# Altium schematic symbol library WISP_AD10.SchLib: 59 symbols
Pins are listed as number, name and electrical type; pins without a type are passive.

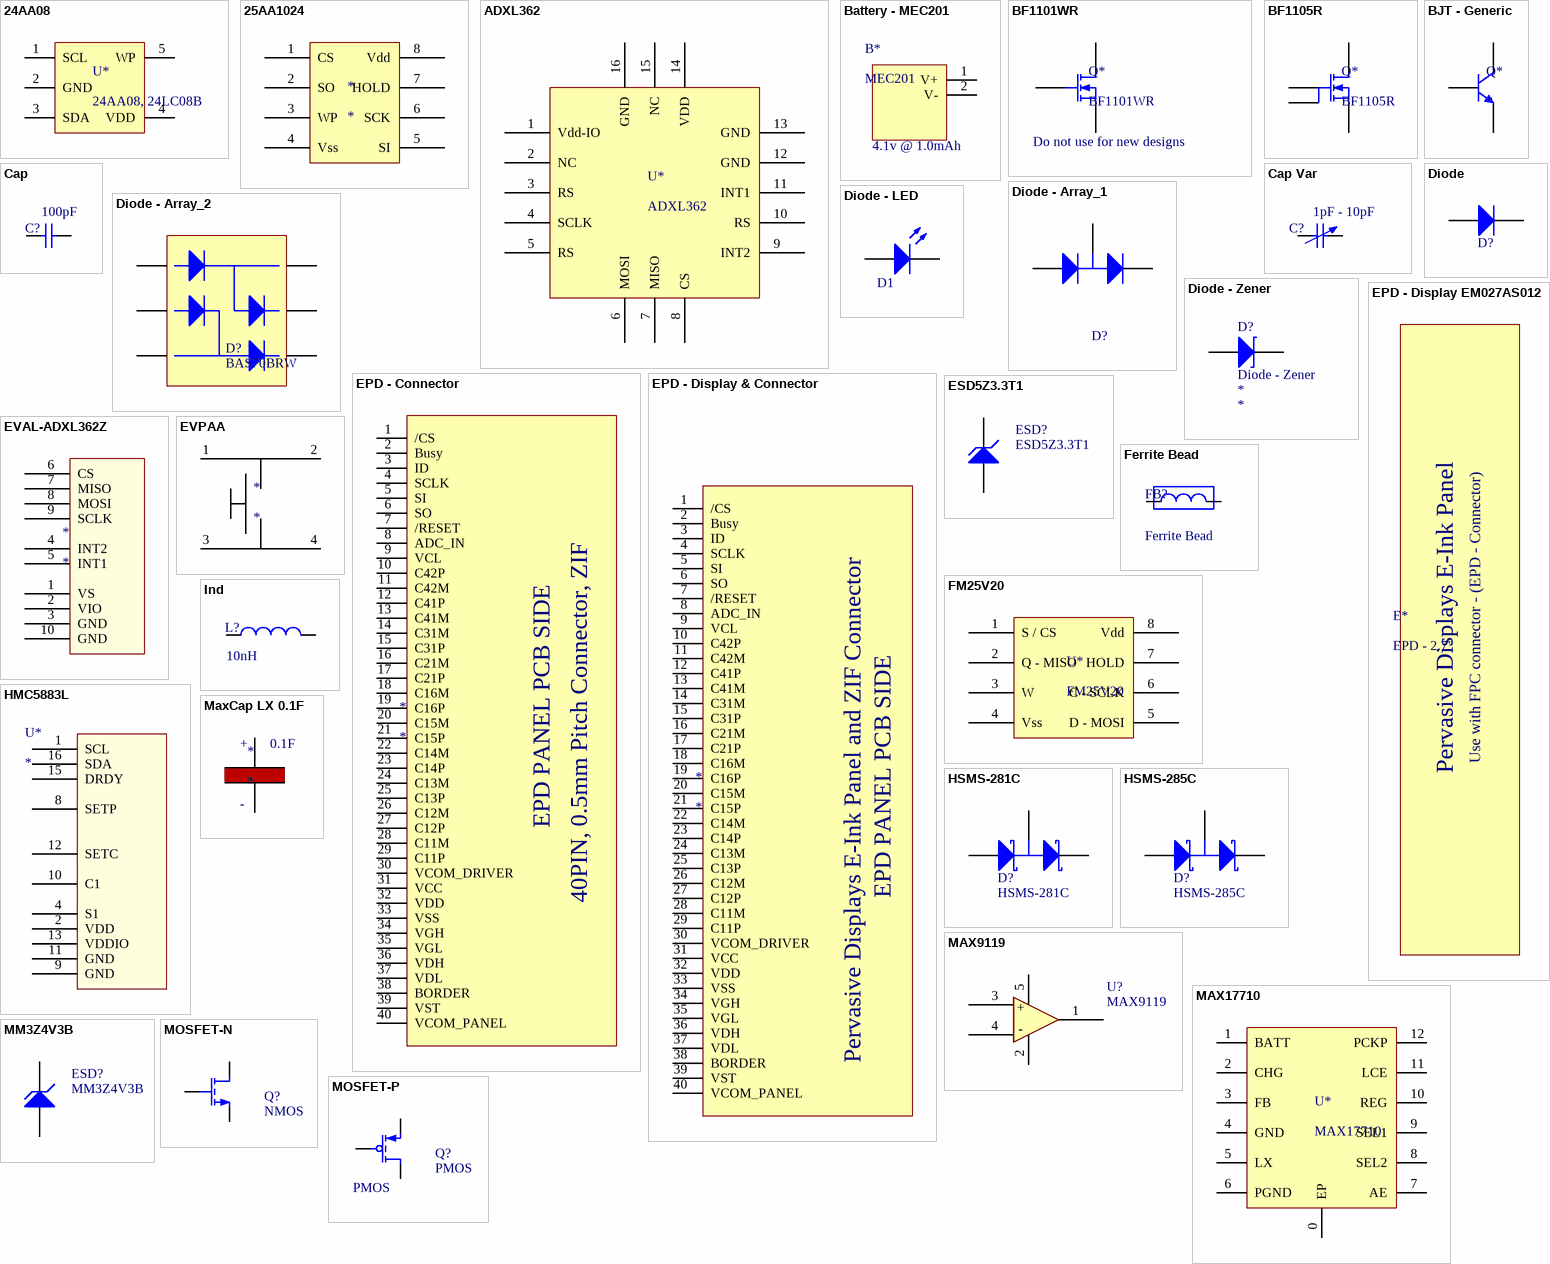
[diagram p0: symbols 24AA08 to MOSFET-P]

## 24AA08
designator U*, comment 24AA08, 24LC08B
IC EEPROM 8KBIT 400KHZ SOT23-5; Manufacturer: Microchip Technology; Manufacturer Part Number: 24AA08T-I/OT; Digi-Key Part Number: 24AA08T-I/OTCT-ND; Note: *; Value: *; Rating: *
footprint SOT23-5
pins: 1 SCL, 2 GND, 3 SDA, 4 VDD, 5 WP

## 25AA1024
designator *
1 Mbit SPI EEPROM; Digi Key Part Number: 25AA1024-I/SM
footprint 8SOIC
pins: 1 CS, 2 SO, 3 WP, 4 Vss, 5 SI, 6 SCK, 7 HOLD, 8 Vdd

## ADXL362
designator U*
3D ACCEL DIG LO PWR 16LGA; Manufacturer: Analog Devices Inc; Manufacturer Part Number: ADXL362BCCZ-R2; Digi-Key Part Number: ADXL362BCCZ-R2CT-ND; Value: *; Rating: *; Note: *
footprint ADXL362 (3D ACCEL DIG LO PWR 3AX 16LGA)
pins: 1 Vdd-IO, 2 NC, 3 RS, 4 SCLK, 5 RS, 6 MOSI, 7 MISO, 8 CS, 9 INT2, 10 RS, 11 INT1, 12 GND, 13 GND, 14 VDD, 15 NC, 16 GND

## Battery - MEC201
designator B*, comment MEC201  value 4.1v @ 1.0mAh
ThinFilm solid state battery  - 4.1V 1.0MAH; Manufacturer Part Number: MEC201-10S (several in same formfactor); Manufacturer: Infinite Power Solutions; Note: *N; Rating: *R; Digi-Key Part Number: MEC201-10SCT-ND (several in same formfactor)
footprint Battery - MEC201 (Thin-Film Battery - 25.4 x 25.4 x 0.170mm)
pins: 1 V+, 2 V-

## BF1101WR
designator Q*  Note: Do not use for new designs
N-Channel Dual-Gate Mos-Fets MOSFET, SOT343R; Manufacturer Part Number: BF1101WR,115; Manufacturer: NXP Semiconductors; Digi-Key Part Number: 568-6140-1-ND; Rating: *; Value: *
footprint SOT343R (SOT343R - Package for BF1101WR)
pins: 1 S, 2 D, 3 G

## BF1105R
designator Q*
SOT-143R, N-Channel Dual-Gate Mos-Fets MOSFET; Manufacturer Part Number: BF1105R,215; Manufacturer: NXP Semiconductors; Digi-Key Part Number: BF1105R,215-ND; Rating: *; Value: *; Note: *
footprint SOT-143R (SOT-143R for BF1105R)
pins: 1 S, 2 D, 3 G, 4 G

## BJT - Generic
designator Q*
Generic BJT; Digi-Key Part Number: *; Manufacturer: *; Manufacturer Part Number: *; Note: *; Value: *; Rating: *
footprint SOT-323 / SC-70 (SOT-323 / SC-70; 3 Lead Package)
pins: 1 B, 2 E, 3 C

## Cap
designator C?  value 100pF  (hidden comment: Cap)
Ceramic Capacitor (Surface Mount); Manufacturer: Generic Ceramic Chip Cap (TBD); Digi-Key Part Number: *; Manufacturer Part Number: *; Note: *; Rating: *
footprint 0402 (Surface Mount; Body 1 x 0.5 mm (LxW typ))
footprint 0402-W (Surface Mount - Wide; Body 1.0 x 0.5 mm (LxW typ))
footprint 0603 (Surface Mount; Body 1.6 x 0.8 mm (LxW typ))
footprint 0603-W (Surface Mount - Wide; Body 1.6 x 0.8 mm (LxW typ))
footprint 0805 (Surface Mount; Body 2.0 x 1.25 mm (LxW typ))
footprint 0805-W (Surface Mount - Wide; Body 2.0 x 1.25 mm (LxW typ))
footprint 1206 (Surface Mount; Body 3.2 x 1.6 mm (LxW typ))
footprint 1206-W (Surface Mount - Wide; Body 3.2 x 1.6 mm (LxW typ))
footprint 1210 (Surface Mount; Body 3.2 x 2.5 mm (LxW typ))
footprint 1210-W (Chip Capacitor; Body 3.2 x 2.5 mm (LxW typ))
pins: 1, 2

## Cap Var
designator C?  value 1pF - 10pF  (hidden comment: Cap Var)
Variable or Adjustable Capacitor; Manufacturer: *; Manufacturer Part Number: *; Digi-Key Part Number: *; Rating: *; Note: *
footprint Var-Cap_0603_Small (Var-Cap 0603 Compatible High-Q, DK#490-2011-1-ND)
footprint Var-Cap - GKY40056 (CAP TRIMMER 8-40PF 50V SMD - GKY40056 - Sprague-Goodman)
footprint Var-Cap_0603_large (Var-Cap 603 Compatible, DK: 490-2009 & SG2026CT)
pins: 1, 2

## Diode
designator D?  (value not drawn)
General Purpose Diode; Manufacturer: *; Manufacturer Part Number: *; Digi-Key Part Number: *; Value: *; Rating: *; Note: *
footprint Diode - SOD128 (Diode: Body 1.6 x 0.8 mm (LxW typ))
footprint DIODE - SOD123 (SOD-123; 2 Leads; Body 2.7 x 1.6 mm, (LxW))
footprint SOD-523 (SOD-523 Footprint)
footprint SOD-323 (SOD-322 Footprint)
pins: 1 A, 2 C

## Diode - Array_1
designator D?, comment Diode Array  (value not drawn)
Diode Array, Two in Series, Small Package SOT-323; Note: *; Manufacturer: *; Manufacturer Part Number: *; Digi-Key Part Number: *; Value: *; Rating: *
footprint SOT23 - N (SOT23, 3-Leads, Body 2.9x1.3mm, Pitch 0.95mm, Lead Span 2.3mm - Reverse Pinning, IPC Medium Density)
footprint SOT-323 / SC-70 (SOT-323 / SC-70; 3 Lead Package)
pins: 1 A, 2 K, 3 C

## Diode - Array_2
designator D?, comment BAS70BRW
Diode Array - 2 Pair Series Connection; Manufacturer: Diodes Inc; Manufacturer Part Number: BAS70BRW-7-F; Note: *; Digi-Key Part Number: BAS70BRW-7FDICT-ND; Value: *; Rating: *
footprint SOT-363 (SOT-363 ,SC-88 ,6 Lead)
pins: 1 A1, 2 A2, 3 AC2, 4 C2, 5 C1, 6 AC1

## Diode - LED
designator D1, comment LED  (value not drawn)
Typical RED, GREEN, YELLOW, AMBER GaAs LED; Digi-Key Part Number: *; Manufacturer: *; Manufacturer Part Number: *; Note: *; Value: *; Rating: *
footprint Diode - 0603 (Diode: Body 1.6 x 0.8 mm (LxW typ))
pins: 1 A, 2 K

## Diode - Zener
designator D?
Manufacturer Part Number: *; Manufacturer: *; Digi-Key Part Number: *; Note: *; Value: *; Rating: *
footprint SOD-523 (SOD-523 Footprint)
pins: 1 A, 2 K

## EPD - Connector
designator *
FPC, 40pin, 0.5mm Pitch - ZIF; Manufacturer: Hirose Electric Co Ltd; Manufacturer Part Number: FH12-40S-0.5SH or FH12S-40S-0.5SH; Digi-Key Part Number: HFJ140CT-ND or HFA140CT-ND; Note: *; Value: *; Rating: *
footprint EPD - Connector (CONN FPC/FFC 40POS .5MM HORZ SMD, ZIF)
pins: 1 /CS, 2 Busy, 3 ID, 4 SCLK, 5 SI, 6 SO, 7 /RESET, 8 ADC_IN, 9 VCL, 10 C42P, 11 C42M, 12 C41P, 13 C41M, 14 C31M, 15 C31P, 16 C21M, 17 C21P, 18 C16M, 19 C16P, 20 C15M, 21 C15P, 22 C14M, 23 C14P, 24 C13M, 25 C13P, 26 C12M, 27 C12P, 28 C11M, 29 C11P, 30 VCOM_DRIVER, 31 VCC, 32 VDD, 33 VSS, 34 VGH, 35 VGL, 36 VDH, 37 VDL, 38 BORDER, 39 VST, 40 VCOM_PANEL
text: EPD PANEL PCB SIDE; 40PIN, 0.5mm Pitch Connector, ZIF

## EPD - Display & Connector
designator *
FPC, 40pin, 0.5mm Pitch - ZIF; Manufacturer: Hirose Electric Co Ltd; Manufacturer Part Number: FH12-40S-0.5SH or FH12S-40S-0.5SH; Digi-Key Part Number: HFJ140CT-ND or HFA140CT-ND; Note: *; Value: *; Rating: *
footprint EPD - Display & Connector (2.7'' TFT EPD Panel, with mating for STARCONN 089H40 Conncetor)
pins: 1 /CS, 2 Busy, 3 ID, 4 SCLK, 5 SI, 6 SO, 7 /RESET, 8 ADC_IN, 9 VCL, 10 C42P, 11 C42M, 12 C41P, 13 C41M, 14 C31M, 15 C31P, 16 C21M, 17 C21P, 18 C16M, 19 C16P, 20 C15M, 21 C15P, 22 C14M, 23 C14P, 24 C13M, 25 C13P, 26 C12M, 27 C12P, 28 C11M, 29 C11P, 30 VCOM_DRIVER, 31 VCC, 32 VDD, 33 VSS, 34 VGH, 35 VGL, 36 VDH, 37 VDL, 38 BORDER, 39 VST, 40 VCOM_PANEL
text: EPD PANEL PCB SIDE; Pervasive Displays E-Ink Panel and ZIF Connector

## EPD - Display EM027AS012
designator E*, comment EPD - 2.7"
2.7" TFT EPD Panel, STARCONN 089H40 variant; Manufacturer: PERVASIVE DISPLAYS, INC; Manufacturer Part Number: EM027AS012; Notes: Use for alignment purposes. No solder pads in footprint.; Digi-Key Part Number: EA-LCD-009-ND (should find another supplyer); Rating: *; Value: *
footprint EM027AS012 (2.7'' TFT EPD Panel, with mating for STARCONN 089H40 Conncetor)
text: Pervasive Displays E-Ink Panel; Use with FPC connector - (EPD - Connector)

## ESD5Z3.3T1
designator ESD?
5V Overvoltage Protection Zener; Manufacturer Part Number: ESD5Z3.3T1G; Manufacturer: ON Semiconductor; Digi-Key Part Number: ESD5Z3.3T1GOSCT-ND; Value: *; Rating: *; Note: *
footprint SOD-523 (SOD-523 Footprint)
pins: 1 A, 2 C

## EVAL-ADXL362Z
designator *
footprint EVAL-ADXL362Z
pins: 1 VS, 2 VIO, 3 GND, 4 INT2, 5 INT1, 6 CS, 7 MISO, 8 MOSI, 9 SCLK, 10 GND

## EVPAA
designator *
Tactile Switch Light Touch; manufacturer part number: EVP-AA402W; Digi-key part number: P13349SCT-ND
footprint EVPAA (3.5 mm x 2.9 mm SND light touch Switch tactile)
pins: 1, 2, 3, 4

## Ferrite Bead
designator FB?
Ferrite bead, RF choke; Manufacturer: example: Taiyo Yuden; Manufacturer Part Number: example: BK1608HS330-T; Digi-Key Part Number: example: 587-1871-1-ND; Rating: *; Note: *; Value: *
footprint 0402 (Surface Mount; Body 1 x 0.5 mm (LxW typ))
footprint 0402-W (Surface Mount - Wide; Body 1.0 x 0.5 mm (LxW typ))
footprint 0603 (Surface Mount; Body 1.6 x 0.8 mm (LxW typ))
footprint 0603-W (Surface Mount - Wide; Body 1.6 x 0.8 mm (LxW typ))
footprint 0805 (Surface Mount; Body 2.0 x 1.25 mm (LxW typ))
footprint 0805-W (Surface Mount - Wide; Body 2.0 x 1.25 mm (LxW typ))
footprint 1206 (Surface Mount; Body 3.2 x 1.6 mm (LxW typ))
footprint 1206-W (Surface Mount - Wide; Body 3.2 x 1.6 mm (LxW typ))
pins: 1, 2

## FM25V20
designator U*
2 Mbit FRAM SPI; Manufacturer: Cypress Semiconductor Corp; Digi-Key Part Number: 428-3214-ND; Manufacturer Part Number: FM25V20; Rating: *; Note: *; Value: *
footprint 8SOIC
footprint TDFN-8 (FM25V20 - 2Mb SPI F-RAM)
pins: 1 S / CS, 2 Q - MISO, 3 W, 4 Vss, 5 D - MOSI, 6 C - SCLK, 7 HOLD, 8 Vdd

## HMC5883L
designator U*
3-Axis Digital Magnetometer
footprint HMC5883L LCC16 0.5mm pitch
pins: 1 SCL, 2 VDD, 3 NC hidden, 4 S1, 5 NC hidden, 6 NC hidden, 7 NC hidden, 8 SETP, 9 GND, 10 C1, 11 GND, 12 SETC, 13 VDDIO, 14 NC hidden, 15 DRDY, 16 SDA

## HSMS-281C
designator D?
Agilent Schottky Diode, Two in Series, Small Package SOT-323; Manufacturer: Avago Technologies US Inc.; Note: *; Digi-Key Part Number: *not stocked; Manufacturer Part Number: HSMS-281C; Rating: *; Value: *
footprint SOT-323, HSMS-285C (SOT-323/SC-70; 3 Leads; HSMS-285C)
pins: 1 A, 2 K, 3 C

## HSMS-285C
designator D?
Agilent Schottky Diode, Two in Series, Small Package SOT-323; Manufacturer: Avago Technologies US Inc.; Note: *; Digi-Key Part Number: *not stocked; Manufacturer Part Number: HSMS-285C; Rating: *; Value: *
footprint SOT-323, HSMS-285C (SOT-323/SC-70; 3 Leads; HSMS-285C)
pins: 1 A, 2 K, 3 C

## Ind
designator L?  value 10nH  (hidden comment: Ind)
Inductor (Surface Mount); Digi-Key Part Number: *; Manufacturer: *; Manufacturer Part Number: *; Rating: *; Note: *
footprint 0402 (Surface Mount; Body 1 x 0.5 mm (LxW typ))
footprint 0402-W (Surface Mount - Wide; Body 1.0 x 0.5 mm (LxW typ))
footprint 0603 (Surface Mount; Body 1.6 x 0.8 mm (LxW typ))
footprint 0603-W (Surface Mount - Wide; Body 1.6 x 0.8 mm (LxW typ))
footprint 0805 (Surface Mount; Body 2.0 x 1.25 mm (LxW typ))
footprint 0805-W (Surface Mount - Wide; Body 2.0 x 1.25 mm (LxW typ))
footprint 1206 (Surface Mount; Body 3.2 x 1.6 mm (LxW typ))
footprint 1206-W (Surface Mount - Wide; Body 3.2 x 1.6 mm (LxW typ))
footprint 1210 (Surface Mount; Body 3.2 x 2.5 mm (LxW typ))
footprint 1210-W (Chip Capacitor; Body 3.2 x 2.5 mm (LxW typ))
pins: 1, 2

## MAX9119
designator U?
IC COMPARATOR BTR SC70-5, 350nA; Manufacturer: Maxim Integrated; Manufacturer Part Number: MAX9119EXK+T; Digi-Key Part Number: MAX9119EXK+TCT-ND; Rating: *; Value: *; Note: *
footprint SC70-5
pins: 1 OUT "Output", 2 VEE "Gnd", 3 IN+ "Positive Input", 4 In- "Inverting Input", 5 VCC "VDD"
text: +; -

## MAX17710
designator U*
IC ENERGY HARVEST MNGR 12UTDFN; Manufacturer: Maxim Integrated; Manufacturer Part Number: MAX17710G+T; Digi-Key Part Number: MAX17710G+TCT-ND; Note: *; Value: *; Rating: *
footprint MAX17710 (12-UFDFN Exposed Pad)
pins: 0 EP, 1 BATT, 2 CHG, 3 FB, 4 GND, 5 LX, 6 PGND, 7 AE, 8 SEL2, 9 SEL1, 10 REG, 11 LCE, 12 PCKP

## MaxCap LX 0.1F
designator *
MaxCap LX 0.1F, low leakage supper cap 5.5v
footprint Maxcap LX 0.1F (Maxcap LX Series, 0.1F, Diameter  11mm, Leads 5.1mm)
pins: 1 Positive (power), 2 GND (power)
text: +; 0.1F; -

## MM3Z4V3B
designator ESD?
Vz=4.3V, Overvoltage Protection Zener; Manufacturer: Fairchild; Manufacturer Part Number: MM3Z4V3B; Digi-Key Part Number: MM3Z4V3BCT-ND; Value: *; Rating: *; Note: *
footprint SOD-323 (SOD-322 Footprint)
pins: 1 A, 2 C

## MOSFET-N
designator Q?, comment NMOS
N-Channel MOSFET; Digi-Key Part Number: *; Manufacturer Part Number: *; Manufacturer: *; Notes: *; Rating: *; Value: NMOS
footprint SOT23 - N (SOT23, 3-Leads, Body 2.9x1.3mm, Pitch 0.95mm, Lead Span 2.3mm - Reverse Pinning, IPC Medium Density)
footprint SOT-323 / SC-70 (SOT-323 / SC-70; 3 Lead Package)
pins: 1 G, 2 S, 3 D

## MOSFET-P
designator Q?, comment PMOS
P-Channel MOSFET; Digi-Key Part Number: *; Manufacturer Part Number: *; Manufacturer: *; Notes: *; Rating: *; Value: PMOS
footprint SOT23 - N (SOT23, 3-Leads, Body 2.9x1.3mm, Pitch 0.95mm, Lead Span 2.3mm - Reverse Pinning, IPC Medium Density)
footprint SOT-323 / SC-70 (SOT-323 / SC-70; 3 Lead Package)
pins: 1 G, 2 S, 3 D

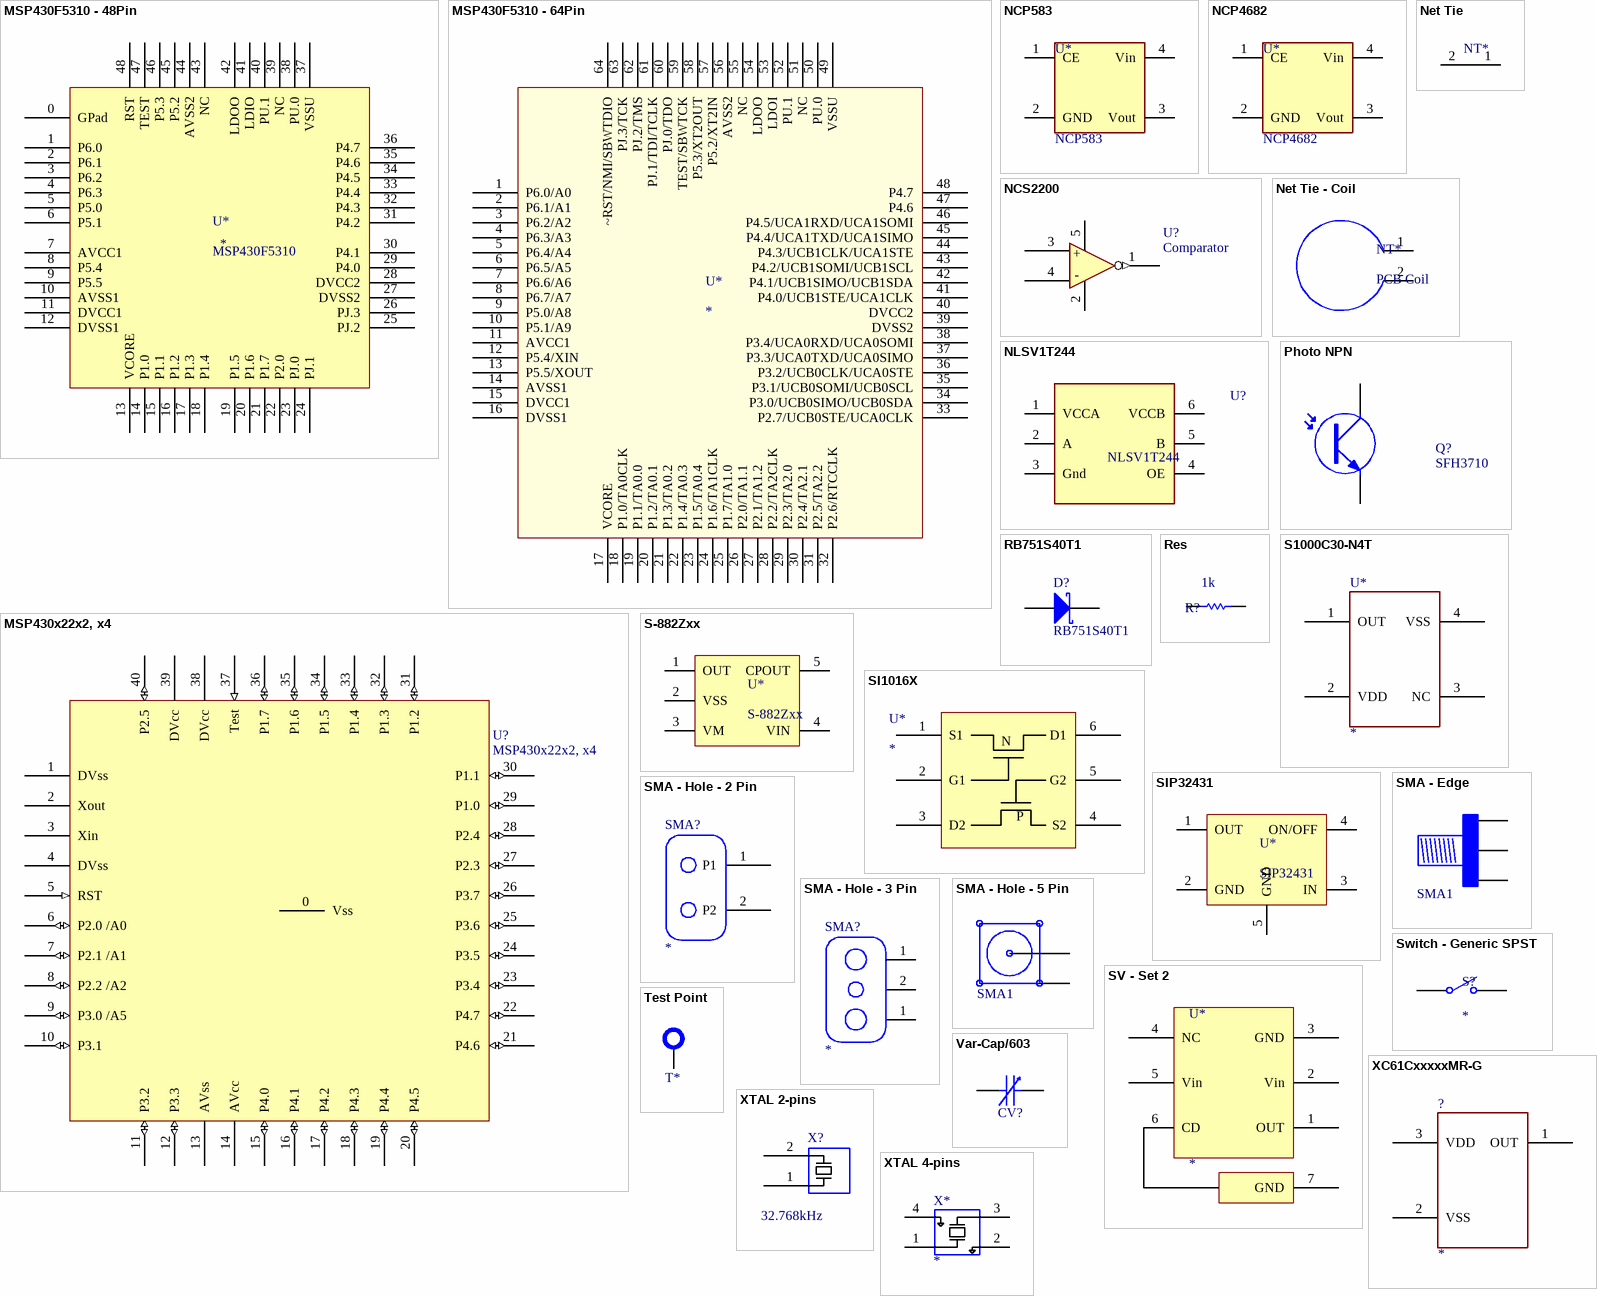
[diagram p1: symbols MSP430F5310 - 48Pin to XTAL 4-pins]

## MSP430F5310 - 48Pin
designator U*, comment MSP430F5310
MSP430 - 48LQFP or 48QFN; Manufacturer: Texas Instruments; Manufacturer Part Number: MSP430F5310 (IPTR or IRGZ); Digi-Key Part Number: 296-28193-2-ND or 296-28133-1-ND; Rating: *; Value: *; Note: *
footprint PT48_L (Thin QFP, 48-Leads, Body 7x7mm, Pitch 0.5mm, IPC High Density)
footprint 48-QFN
pins: 0 GPad, 1 P6.0, 2 P6.1, 3 P6.2, 4 P6.3, 5 P5.0, 6 P5.1, 7 AVCC1, 8 P5.4, 9 P5.5, 10 AVSS1, 11 DVCC1, 12 DVSS1, 13 VCORE, 14 P1.0, 15 P1.1, 16 P1.2, 17 P1.3, 18 P1.4, 19 P1.5, 20 P1.6, 21 P1.7, 22 P2.0, 23 PJ.0, 24 PJ.1, 25 PJ.2, 26 PJ.3, 27 DVSS2, 28 DVCC2, 29 P4.0, 30 P4.1, 31 P4.2, 32 P4.3, 33 P4.4, 34 P4.5, 35 P4.6, 36 P4.7, 37 VSSU, 38 PU.0, 39 NC, 40 PU.1, 41 LDIO, 42 LDOO, 43 NC, 44 AVSS2, 45 P5.2, 46 P5.3, 47 TEST, 48 RST

## MSP430F5310 - 64Pin
designator U*
16-bit Low Power Microcontroller
footprint MSP430F5310 LCC64
pins: 1 P6.0/A0, 2 P6.1/A1, 3 P6.2/A2, 4 P6.3/A3, 5 P6.4/A4, 6 P6.5/A5, 7 P6.6/A6, 8 P6.7/A7, 9 P5.0/A8, 10 P5.1/A9, 11 AVCC1, 12 P5.4/XIN, 13 P5.5/XOUT, 14 AVSS1, 15 DVCC1, 16 DVSS1, 17 VCORE, 18 P1.0/TA0CLK, 19 P1.1/TA0.0, 20 P1.2/TA0.1, 21 P1.3/TA0.2, 22 P1.4/TA0.3, 23 P1.5/TA0.4, 24 P1.6/TA1CLK, 25 P1.7/TA1.0, 26 P2.0/TA1.1, 27 P2.1/TA1.2, 28 P2.2/TA2CLK, 29 P2.3/TA2.0, 30 P2.4/TA2.1, 31 P2.5/TA2.2, 32 P2.6/RTCCLK, 33 P2.7/UCB0STE/UCA0CLK, 34 P3.0/UCB0SIMO/UCB0SDA, 35 P3.1/UCB0SOMI/UCB0SCL, 36 P3.2/UCB0CLK/UCA0STE, 37 P3.3/UCA0TXD/UCA0SIMO, 38 P3.4/UCA0RXD/UCA0SOMI, 39 DVSS2, 40 DVCC2, 41 P4.0/UCB1STE/UCA1CLK, 42 P4.1/UCB1SIMO/UCB1SDA, 43 P4.2/UCB1SOMI/UCB1SCL, 44 P4.3/UCB1CLK/UCA1STE, 45 P4.4/UCA1TXD/UCA1SIMO, 46 P4.5/UCA1RXD/UCA1SOMI, 47 P4.6, 48 P4.7, 49 VSSU, 50 PU.0, 51 NC, 52 PU.1, 53 LDOI, 54 LDOO, 55 NC, 56 AVSS2, 57 P5.2/XT2IN, 58 P5.3/XT2OUT, 59 TEST/SBWTCK, 60 PJ.0/TDO, 61 PJ.1/TDI/TCLK, 62 PJ.2/TMS, 63 PJ.3/TCK, 64 ~RST/NMI/SBWTDIO

## MSP430x22x2, x4
designator U?
40QFN - MSP430x22x2, x4; Manufacturer: Texas Instruments; Manufacturer Part Number: MSP430F2272IRHAT (several variants); Note: *; Digi-Key Part Number: 296-21441-1-ND (several variants)
footprint 40-QFN (40-QFN, for MSP430x22x2, x4)
pins: 0 Vss (power) "Output", 1 DVss (power) "Output", 2 Xout "Output", 3 Xin "Output", 4 DVss (power) "Output", 5 RST (in), 6 P2.0 /A0 (io), 7 P2.1 /A1 (io), 8 P2.2 /A2 (io), 9 P3.0 /A5 (io), 10 P3.1 (io), 11 P3.2 (io), 12 P3.3 (io), 13 AVss (power), 14 AVcc (power), 15 P4.0 (io), 16 P4.1 (io), 17 P4.2 (io), 18 P4.3  (io), 19 P4.4 (io), 20 P4.5 (io), 21 P4.6 (io), 22 P4.7 (io), 23 P3.4 (io), 24 P3.5 (io), 25 P3.6 (io), 26 P3.7 (io), 27 P2.3 (io), 28 P2.4 (io), 29 P1.0 (io), 30 P1.1 (io), 31 P1.2 (io), 32 P1.3 (io), 33 P1.4 (io), 34 P1.5 (io), 35 P1.6 (io), 36 P1.7 (io), 37 Test (in), 38 DVcc (power), 39 DVcc (power), 40 P2.5 (io)

## NCP583
designator U*
Regulator: Ultra-Low Iq 150mA CMOS LDO Regulator with Enable; Manufacturer: ON Semiconductor; Manufacturer Part Number: NCP583SQ18T1G; Digi-Key Part Number: NCP583SQ18T1GOSCT-ND; Rating: *; Value: *; Note: *
footprint SC82-AB
pins: 1 CE, 2 GND, 3 Vout, 4 Vin

## NCP4682
designator U*
Regulator: LDO  NCP4682 (with enable) / NCP4685 (without); Manufacturer: ON Semiconductor; Manufacturer Part Number: NCP4682DSQ18T1G; Digi-Key Part Number: NCP4682DSQ18T1GOSCT-ND; Rating: *; Value: *; Note: *
footprint SC82-AB
pins: 1 CE, 2 GND, 3 Vout, 4 Vin

## NCS2200
designator U?, comment Comparator
Comparator: On Semi 10uA Comparator; Manufacturer: ON Semiconductor; Manufacturer Part Number: NCS2200SQ2T2G; Digi-Key Part Number: NCS2200SQ2T2GOSTR-ND; Rating: *; Value: *; Note: *
footprint SC70-5
pins: 1 OUT (out) "Output", 2 Gnd (power), 3 IN+ "Positive Input", 4 In- "Inverting Input", 5 VDD
text: +; -

## Net Tie
designator NT*  (value not drawn)  (net tie)
Used to connect to nets; Note: A Net Tie is an element that allows two differnt nets to be connected (shorted) together.
footprint Net Tie - 50mil (Net Tie is used to connect two differnt nets together)
pins: 1 N1, 2 N2

## Net Tie - Coil
designator NT*, comment PCB Coil  (net tie, no BOM)
Hand draw coil symbol based on a 'Net Tie'; Note: A Net Tie is an element that allows two differnt nets to be connected (shorted) together.
footprint Net Tie - 50mil (Net Tie is used to connect two differnt nets together)
footprint Net Tie - 20mil (Net Tie is used to connect two differnt nets together)
pins: 1 N1, 2 N2

## NLSV1T244
designator U?
Level Shifter: 1-Bit Dual-Supply Non-Inverting Level Translator; Manufacturer Part Number: NLSV1T244MUTBG; Manufacturer: ON Semiconductor; Digi-Key Part Number: NLSV1T244MUTBG-ND; Rating: *; Value: *; Note: *
footprint UDFN6 (UDFN6 - Level Shifter -  NLSV1T244)
footprint UDFN6 - Long (UDFN6 - Level Shifter -  NLSV1T244)
pins: 1 VCCA (power) "VDDA", 2 A "Low Voltage IO", 3 Gnd (power), 4 OE "Enable Output Translation", 5 B "High Voltage IO", 6 VCCB (power) "VDDY"

## Photo NPN
designator Q?, comment SFH3710
NPN Phototransistor; Manufacturer: OSRAM Opto Semiconductors Inc; Manufacturer Part Number: SFH 3710-3/4-Z; Digi-Key Part Number: 475-1268-1-ND; Value: *; Rating: *; Note: *
footprint 0805-W (Surface Mount - Wide; Body 2.0 x 1.25 mm (LxW typ))
pins: 1 C, 2 E

## RB751S40T1
designator D?
Schottky Diode; Published: 8-Jun-2000; LatestRevisionDate: 17-Jul-2002; LatestRevisionNote: Re-released for DXP Platform.; PackageReference: SMB; Publisher: Altium Limited; Code_JEDEC: DO-214-AA
footprint SOD-523 (SOD-523 Footprint)
pins: 1 A, 2 C

## Res
designator R?  value 1k  (hidden comment: Res)
Chip Resistor (Surface Mount); Manufacturer: Generic Chip Res (TBD); Manufacturer Part Number: *; Digi-Key Part Number: *; Rating: *; Note: *
footprint 0402 (Surface Mount; Body 1 x 0.5 mm (LxW typ))
footprint 0402-W (Surface Mount - Wide; Body 1.0 x 0.5 mm (LxW typ))
footprint 0603 (Surface Mount; Body 1.6 x 0.8 mm (LxW typ))
footprint 0603-W (Surface Mount - Wide; Body 1.6 x 0.8 mm (LxW typ))
footprint 0805 (Surface Mount; Body 2.0 x 1.25 mm (LxW typ))
footprint 0805-W (Surface Mount - Wide; Body 2.0 x 1.25 mm (LxW typ))
footprint 1206 (Surface Mount; Body 3.2 x 1.6 mm (LxW typ))
footprint 1206-W (Surface Mount - Wide; Body 3.2 x 1.6 mm (LxW typ))
footprint 1210 (Surface Mount; Body 3.2 x 2.5 mm (LxW typ))
footprint 1210-W (Chip Capacitor; Body 3.2 x 2.5 mm (LxW typ))
pins: 1, 2

## S1000C30-N4T
designator U*
Ultra-small package High precision protection(SC82-AB)
footprint SC82-AB
pins: 1 OUT, 2 VDD, 3 NC, 4 VSS

## S-882Zxx
designator U*
ULTRA-LOW VOLTAGE OPERATION CHARGE PUMP IC  FOR STEP-UP DC-DC CONVERTER STARTUP; Manufacturer: Seiko Instruments; Digi-Key Part Number: S-882Z20-M5T1G-ND; Rating: *; Note: *; Manufacturer Part Number: S-882Zxx; Value: *
footprint SOT23-5
pins: 1 OUT, 2 VSS, 3 VM, 4 VIN, 5 CPOUT

## SI1016X
designator U*
NMOS and PMOS array; Manufacturer: Vishay Siliconix; Manufacturer Part Number: SI1016X-T1-GE3; Digi-Key Part Number: SI1016X-T1-GE3CT-ND; Value: *; Rating: *; Note: *
footprint SC-89-6 Vishay
pins: 1 S1, 2 G1, 3 D2, 4 S2, 5 G2, 6 D1
text: N; P

## SIP32431
designator U*
High Sside Switch - 4TDFN package; Manufacturer: Vishay Siliconix; Manufacturer Part Number: SIP32431DNP3-T1GE4; Digi-Key Part Number: SIP32431DNP3-T1GE4CT-ND; Note: *; Value: *; Rating: *
footprint TDFN-4
pins: 1 OUT, 2 GND, 3 IN, 4 ON/OFF, 5 GND

## SMA - Edge
designator SMA1  (value not drawn)
SMA - Board Edge Connector; Note: *; Digi-Key Part Number: *; Manufacturer Part Number: *; Manufacturer: *
footprint SMA - Edge - Wide (SMA - Board Edge Connector, Wide Body = .375in, no gnd pad)
footprint SMA - Edge - Narrow (SMA - Board Edge Connector, Narrow body = 0.25in)
pins: 1, 1, 2

## SMA - Hole - 2 Pin
designator SMA?
Two pin SMA connector wisp; Note: Not a part do not populate
footprint SMA - Hole - 2 Pin (SMA port for wisp)
pins: 1 P1 "Output", 2 P2 "Output"

## SMA - Hole - 3 Pin
designator SMA?
Two pin SMA connector wisp; Note: Not a part do not populate
footprint SMA - Hole - 3 Pin (SMA Through Hole Connector 3 pins)
pins: 1 P1 "Output", 1 P1 "Output", 2 P2 "Output"

## SMA - Hole - 5 Pin
designator SMA1  (value not drawn)
SMA - Through Hole Connector; Manufacturer Part Number: *; Manufacturer: *; Digi-Key Part Number: *; Note: *
footprint SMA - Hole - 5 Pin (SMA Through Hole Connector)
pins: 1, 2

## SV - Set 2
designator U*
Ultra small package High precision voltage protection(SOT-23-5); Note: This foot print (or set of footprint) can be used for multiple supervisor form different manufactures. In some case a capacitor or resistors in necessary. Not for production use as it.
footprint SV - Set 2 (S-1000 (SOT-23-5, SC-82);  S1009 (SOT-23-5);  XC61C (SC-82, SOT-23);  NCP300 (SOT-23-5))
pins: 1 OUT, 2 Vin, 3 GND, 4 NC, 5 Vin, 6 CD, 7 GND

## Switch - Generic SPST
designator S?
Generic Single-Pole, Single-Throw Switch; Manufacturer: *; Digi-Key Part Number: *; Manufacturer Part Number: *; Note: *; Value: *; Rating: *
footprint Switch - B3U-1000P (Top Push Button Switch, OMRON, SPST-NO, Off-Mom, 0.05A 12V)
pins: 1 COMMON, 2 NO

## Test Point
designator T*  (value not drawn)
Test Point, large or small foot prints; Manufacturer Part Number: Example: 5000, 5013; Manufacturer: Keystone Electronics; Digi-Key Part Number: Example: 5000K-ND, 5012K-ND, Surface mount 5015KCT-ND; Note: *; Rating: *; Value: *
footprint Test Point - Small (Test Point, 40mil hole, example DK: 5000K-ND)
footprint Test Point - Large (Test Point, 63mil hole, example DK: 5012K-ND)
footprint Test Point - Surface Mount - Small (Test Point, Surface Mount Large , example DK: 5015KCT-ND)
footprint Test Point - Super Small (25 - 42)
pins: 0

## Var-Cap/603
designator CV?, comment Var Cap  (value not drawn)
Var-Cap 603 Compatible, DK: 490-2009 & SG2026CT; DNS: Do Not Stuff Part; Part Number: *; Digi-Key PN: 490-2009 & SG2026CT
footprint Var-Cap_0603_Large (Var-Cap 603 Compatible, DK: 490-2009 & SG2026CT)
footprint Var-Cap_0603_Small (Var-Cap 0603 Compatible High-Q, DK#490-2011-1-ND)
pins: 1 "Output", 2 "Output"

## XC61CxxxxxMR-G
designator ?
Torex IC Supervisor, SOT-23
footprint SOT23 - N (SOT23, 3-Leads, Body 2.9x1.3mm, Pitch 0.95mm, Lead Span 2.3mm - Reverse Pinning, IPC Medium Density)
pins: 1 OUT, 2 VSS, 3 VDD

## XTAL 2-pins
designator X?, comment value 32.768kHz  (hidden comment: XTAL)
Crystal - 2-Pin Surface Mount; Manufacturer: Epson Toyocom Corporation; Manufacturer Part Number: FC-135 32.7680KA-A3; Digi-Key Part Number: example: SE2413CT-ND
footprint XTAL [3.20mm x 1.50mm] (FC-135   crystal - epson eletronics)
pins: 1 (power) "Output", 2 (power) "Output"

## XTAL 4-pins
designator X*, comment XTAL 4pin  (value not drawn)
Crystal - 4-Pin Surface Mount; Manufacturer Part Number: NX2520SA-26.000000MHZ-B9; Manufacturer: NDK; Digi-Key Part Number: 644-1095-1-ND; Note: NX2520SA-26.000000MHZ-B9; Rating: *; Value: *
footprint XTAL - 4Pin [2.5mm x 2.0mm] (CRYSTAL, 2.5mm x 2.0mm,  4Pin)
footprint XTAL - 4Pin [3.2MM X 2.5MM] (CRYSTAL, 3.2mm x 2.5mm,  4Pin)
footprint XTAL - 4Pin [5.0mm x 3.2mm] (CRYSTAL, 5mm x 3.2mm,  4Pin)
pins: 1 XIN, 2 Gnd, 3 XOUT, 4 Gnd